# EAGLE library part AL8860QMP-13 (library AL8860QMP-13)
LED Lighting Drivers LED MV Int Switch Source: Datasheet <https://www.diodes.com/assets/Datasheets/AL8860Q.pdf>
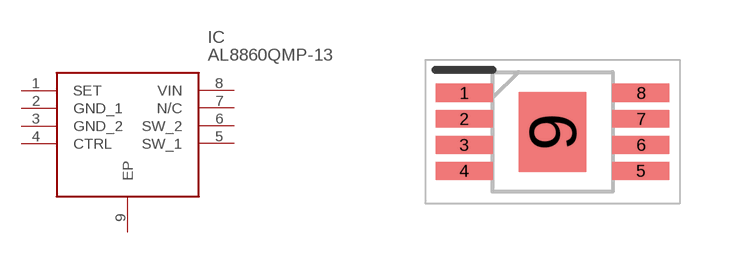
[diagram p0: symbol with the pads of SOP65P490X110-9N; footprint SOP65P490X110-9N]

Designator prefix IC

## AL8860QMP-13 (Arrow_Part_Number: AL8860QMP-13; Arrow_Price-Stock: https://www.arrow.com/en/products/al8860qmp-13/diodes-incorporated?region=europe; Description: LED Lighting Drivers LED MV Int Switch; Height: 1.1mm; Manufacturer_Name: Diodes Incorporated; Manufacturer_Part_Number: AL8860QMP-13; Mouser_Part_Number: 621-AL8860QMP-13; Mouser_Price-Stock: https://www.mouser.co.uk/ProductDetail/Diodes-Incorporated/AL8860QMP-13?qs=EBDBlbfErPyyWdIw%2F9tthg%3D%3D)  [SOP65P490X110-9N]
1  SET
2  GND_1
3  GND_2
4  CTRL
5  SW_1
6  SW_2
7  N/C  nc
8  VIN
9  EP

## Footprint SOP65P490X110-9N (pad centres in mm)
MSOP-8EP_1
smd 1.425 x 0.45: 1 -2.212,0.975; 2 -2.212,0.325; 3 -2.212,-0.325; 4 -2.212,-0.975; 5 2.212,-0.975; 6 2.212,-0.325; 7 2.212,0.325; 8 2.212,0.975
smd 1.7 x 2: 9 0,0